# Altium integrated library Resistors.IntLib: 4954 symbols (part 16 of 32)
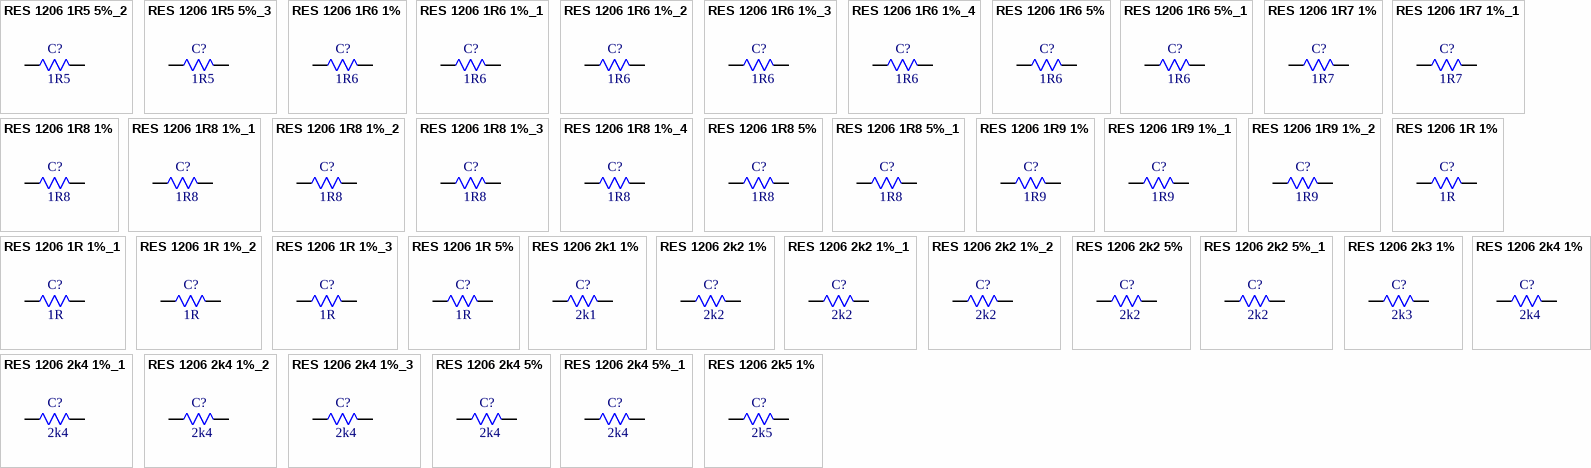
[diagram p138: symbols RES 1206 1R5 5%_2 to RES 1206 2k5 1%]

## RES 1206 2k5 1%
designator C?, comment 2k5
2.55kR 1% 250mW 1206 Thick Film Resistor; Manufacturer: FOJAN; Manufacturer Part Number: FRC1206F2551TS; Voltage Rating: 200V; Supplier: LCSC; Supplier Part Number: C2930415; Resistance: 2k5; Tolerance: 1%; Power: 250mW
footprint RES SMD 1206
pins: 1, 2

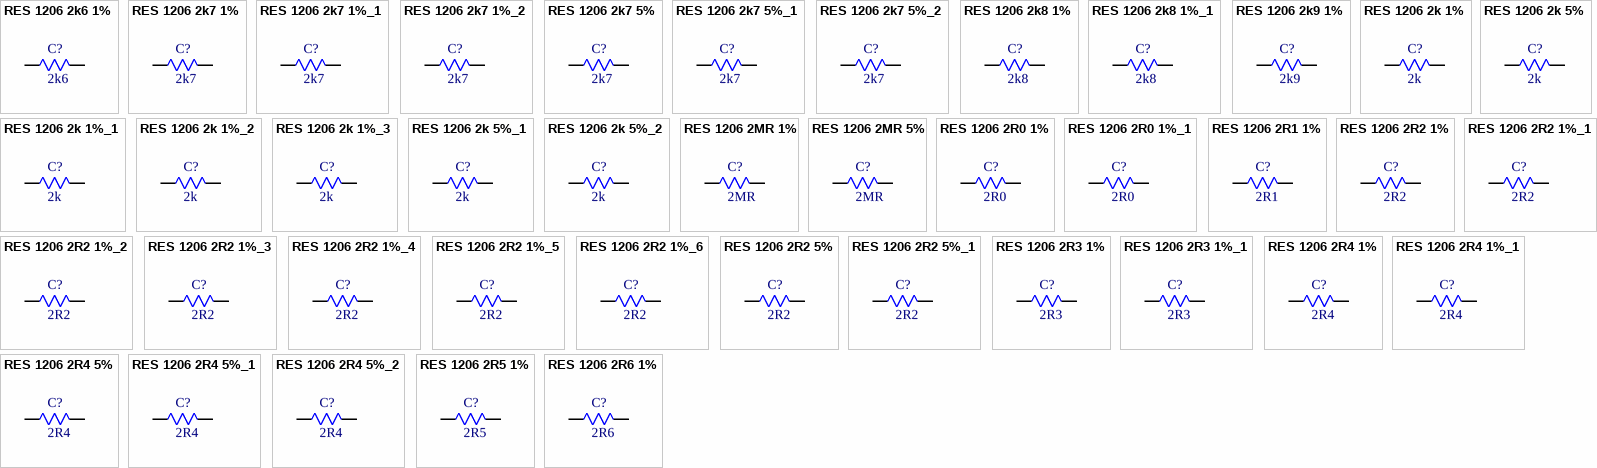
[diagram p60: symbols RES 1206 2k6 1% to RES 1206 2R6 1%]

## RES 1206 2k6 1%
designator C?, comment 2k6
250mW 2.61kR 200V Thick Film Resistor 100ppm/â„ƒ 1% 1206 Chip Resistor - Surface Mount RoHS; Manufacturer: FOJAN; Manufacturer Part Number: FRC1206F2611TS; Supplier: LCSC; Supplier Part Number: C48533626; Resistance: 2k6; Tolerance: 1%; Voltage Rating: 200V; Power: 250mW
footprint RES SMD 1206
pins: 1, 2

## RES 1206 2k7 1%
designator C?, comment 2k7
2.7kR 1% 250mW 1206 Thick Film Resistor; Manufacturer: FOJAN; Manufacturer Part Number: FRC1206F2701TS; Voltage Rating: 200V; Supplier: LCSC; Supplier Part Number: C2930416; Resistance: 2k7; Tolerance: 1%; Power: 250mW
footprint RES SMD 1206
pins: 1, 2

## RES 1206 2k7 1%_1
designator C?, comment 2k7
250mW 2.7kR 200V Thick Film Resistor 100ppm/â„ƒ 1% 1206 Chip Resistor - Surface Mount RoHS; Manufacturer: FOJAN; Manufacturer Part Number: FRQ1206F2701TS; Supplier: LCSC; Supplier Part Number: C48533718; Resistance: 2k7; Tolerance: 1%; Voltage Rating: 200V; Power: 250mW
footprint RES SMD 1206
pins: 1, 2

## RES 1206 2k7 1%_2
designator C?, comment 2k7
2.74kR 1% 250mW 1206 Thick Film Resistor; Manufacturer: FOJAN; Manufacturer Part Number: FRC1206F2741TS; Voltage Rating: 200V; Supplier: LCSC; Supplier Part Number: C3000744; Resistance: 2k7; Tolerance: 1%; Power: 250mW
footprint RES SMD 1206
pins: 1, 2

## RES 1206 2k7 5%
designator C?, comment 2k7
2.7kR 5% 250mW 1206 Thick Film Resistor; Manufacturer: FOJAN; Manufacturer Part Number: FRC1206J272 TS; Voltage Rating: 200V; Supplier: LCSC; Supplier Part Number: C2907449; Resistance: 2k7; Tolerance: 5%; Power: 250mW
footprint RES SMD 1206
pins: 1, 2

## RES 1206 2k7 5%_1
designator C?, comment 2k7
2.7kR 5% 250mW 1206 Thick Film Resistor; Manufacturer: FOJAN; Manufacturer Part Number: FRD1206J272 TS; Voltage Rating: 200V; Supplier: LCSC; Supplier Part Number: C2934221; Resistance: 2k7; Tolerance: 5%; Power: 250mW
footprint RES SMD 1206
pins: 1, 2

## RES 1206 2k7 5%_2
designator C?, comment 2k7
250mW 2.7kR 200V Thick Film Resistor 100ppm/â„ƒ 5% 1206 Chip Resistor - Surface Mount RoHS; Manufacturer: FOJAN; Manufacturer Part Number: FRQ1206J272 TS; Supplier: LCSC; Supplier Part Number: C49196754; Resistance: 2k7; Tolerance: 5%; Voltage Rating: 200V; Power: 250mW
footprint RES SMD 1206
pins: 1, 2

## RES 1206 2k8 1%
designator C?, comment 2k8
2.87kR 1% 250mW 1206 Thick Film Resistor; Manufacturer: FOJAN; Manufacturer Part Number: FRC1206F2871TS; Voltage Rating: 200V; Supplier: LCSC; Supplier Part Number: C3000570; Resistance: 2k8; Tolerance: 1%; Power: 250mW
footprint RES SMD 1206
pins: 1, 2

## RES 1206 2k8 1%_1
designator C?, comment 2k8
2.8kR 1% 250mW 1206 Thick Film Resistor; Manufacturer: FOJAN; Manufacturer Part Number: FRC1206F2801TS; Voltage Rating: 200V; Supplier: LCSC; Supplier Part Number: C5126233; Resistance: 2k8; Tolerance: 1%; Power: 250mW
footprint RES SMD 1206
pins: 1, 2

## RES 1206 2k9 1%
designator C?, comment 2k9
2.94kR 1% 250mW 1206 Thick Film Resistor; Manufacturer: FOJAN; Manufacturer Part Number: FRC1206F2941TS; Voltage Rating: 200V; Supplier: LCSC; Supplier Part Number: C2933659; Resistance: 2k9; Tolerance: 1%; Power: 250mW
footprint RES SMD 1206
pins: 1, 2

## RES 1206 2k 1%
designator C?, comment 2k
2kR 1% 250mW 1206 Thick Film Resistor; Manufacturer: FOJAN; Manufacturer Part Number: FRC1206F2001TS; Voltage Rating: 200V; Supplier: LCSC; Supplier Part Number: C2907379; Resistance: 2k; Tolerance: 1%; Power: 250mW
footprint RES SMD 1206
pins: 1, 2

## RES 1206 2k 1%_1
designator C?, comment 2k
2kR 250mW 200V Thick Film Resistor 1% 1206 Chip Resistor - Surface Mount RoHS; Manufacturer: FOJAN; Manufacturer Part Number: FRS1206F2001TS; Supplier: LCSC; Supplier Part Number: C52033566; Resistance: 2k; Tolerance: 1%; Voltage Rating: 200V; Power: 250mW
footprint RES SMD 1206
pins: 1, 2

## RES 1206 2k 1%_2
designator C?, comment 2k
2kR 250mW 200V Thick Film Resistor 100ppm/â„ƒ 1% 1206 Chip Resistor - Surface Mount RoHS; Manufacturer: FOJAN; Manufacturer Part Number: FRR1206F2001TS; Supplier: LCSC; Supplier Part Number: C49196837; Resistance: 2k; Tolerance: 1%; Voltage Rating: 200V; Power: 250mW
footprint RES SMD 1206
pins: 1, 2

## RES 1206 2k 1%_3
designator C?, comment 2k
2kR 250mW 200V Thick Film Resistor 1% 100ppm/â„ƒ 1206 Chip Resistor - Surface Mount RoHS; Manufacturer: FOJAN; Manufacturer Part Number: FRQ1206F2001TS; Supplier: LCSC; Supplier Part Number: C7468620; Resistance: 2k; Tolerance: 1%; Voltage Rating: 200V; Power: 250mW
footprint RES SMD 1206
pins: 1, 2

## RES 1206 2k 5%
designator C?, comment 2k
2kR 5% 250mW 1206 Thick Film Resistor; Manufacturer: FOJAN; Manufacturer Part Number: FRC1206J202 TS; Voltage Rating: 200V; Supplier: LCSC; Supplier Part Number: C2907466; Resistance: 2k; Tolerance: 5%; Power: 250mW
footprint RES SMD 1206
pins: 1, 2

## RES 1206 2k 5%_1
designator C?, comment 2k
2kR 250mW Thick Film Resistor 5% 100ppm/â„ƒ 1206 Chip Resistor - Surface Mount RoHS; Manufacturer: FOJAN; Manufacturer Part Number: FRQ1206J202 TS; Supplier: LCSC; Supplier Part Number: C7468453; Resistance: 2k; Tolerance: 5%; Power: 250mW
footprint RES SMD 1206
pins: 1, 2

## RES 1206 2k 5%_2
designator C?, comment 2k
2kR 500mW Thick Film Resistor 200ppm/â„ƒ 5% 1206 Chip Resistor - Surface Mount RoHS; Manufacturer: FOJAN; Manufacturer Part Number: FRP1206J202 TS; Supplier: LCSC; Supplier Part Number: C7468214; Resistance: 2k; Tolerance: 5%; Power: 500mW
footprint RES SMD 1206
pins: 1, 2

## RES 1206 2MR 1%
designator C?, comment 2MR
2MR 1% 250mW 1206 Thick Film Resistor; Manufacturer: FOJAN; Manufacturer Part Number: FRC1206F2004TS; Voltage Rating: 200V; Supplier: LCSC; Supplier Part Number: C2907380; Resistance: 2MR; Tolerance: 1%; Power: 250mW
footprint RES SMD 1206
pins: 1, 2

## RES 1206 2MR 5%
designator C?, comment 2MR
2MR 5% 250mW 1206 Thick Film Resistor; Manufacturer: FOJAN; Manufacturer Part Number: FRC1206J205 TS; Voltage Rating: 200V; Supplier: LCSC; Supplier Part Number: C2907467; Resistance: 2MR; Tolerance: 5%; Power: 250mW
footprint RES SMD 1206
pins: 1, 2

## RES 1206 2R0 1%
designator C?, comment 2R0
2.05R 1% 250mW 1206 Thick Film Resistor; Manufacturer: FOJAN; Manufacturer Part Number: FRC1206F2R05TS; Voltage Rating: 200V; Supplier: LCSC; Supplier Part Number: C5126165; Resistance: 2R0; Tolerance: 1%; Power: 250mW
footprint RES SMD 1206
pins: 1, 2

## RES 1206 2R0 1%_1
designator C?, comment 2R0
250mW 2.05MR 200V Thick Film Resistor 100ppm/â„ƒ 1% 1206 Chip Resistor - Surface Mount RoHS; Manufacturer: FOJAN; Manufacturer Part Number: FRC1206F2054TS; Supplier: LCSC; Supplier Part Number: C48533627; Resistance: 2R0; Tolerance: 1%; Voltage Rating: 200V; Power: 250mW
footprint RES SMD 1206
pins: 1, 2

## RES 1206 2R1 1%
designator C?, comment 2R1
2.15R 1% 250mW 1206 Thick Film Resistor; Manufacturer: FOJAN; Manufacturer Part Number: FRC1206F2R15TS; Voltage Rating: 200V; Supplier: LCSC; Supplier Part Number: C2933661; Resistance: 2R1; Tolerance: 1%; Power: 250mW
footprint RES SMD 1206
pins: 1, 2

## RES 1206 2R2 1%
designator C?, comment 2R2
2.2MR 1% 250mW 1206 Thick Film Resistor; Manufacturer: FOJAN; Manufacturer Part Number: FRC1206F2204TS; Voltage Rating: 200V; Supplier: LCSC; Supplier Part Number: C2933644; Resistance: 2R2; Tolerance: 1%; Power: 250mW
footprint RES SMD 1206
pins: 1, 2

## RES 1206 2R2 1%_1
designator C?, comment 2R2
2.2R 1% 250mW 1206 Thick Film Resistor; Manufacturer: FOJAN; Manufacturer Part Number: FRC1206F2R20TS; Voltage Rating: 200V; Supplier: LCSC; Supplier Part Number: C2907376; Resistance: 2R2; Tolerance: 1%; Power: 250mW
footprint RES SMD 1206
pins: 1, 2

## RES 1206 2R2 1%_2
designator C?, comment 2R2
2.26R 1% 250mW 1206 Thick Film Resistor; Manufacturer: FOJAN; Manufacturer Part Number: FRC1206F2R26TS; Voltage Rating: 200V; Supplier: LCSC; Supplier Part Number: C2933662; Resistance: 2R2; Tolerance: 1%; Power: 250mW
footprint RES SMD 1206
pins: 1, 2

## RES 1206 2R2 1%_3
designator C?, comment 2R2
250mW 2.2MR Thick Film Resistor 1% 100ppm/â„ƒ 1206 Chip Resistor - Surface Mount RoHS; Manufacturer: FOJAN; Manufacturer Part Number: FRV1206F2204TS; Supplier: LCSC; Supplier Part Number: C7468679; Resistance: 2R2; Tolerance: 1%; Power: 250mW
footprint RES SMD 1206
pins: 1, 2

## RES 1206 2R2 1%_4
designator C?, comment 2R2
250mW 2.2MR 200V Thick Film Resistor 100ppm/â„ƒ 1% 1206 Chip Resistor - Surface Mount RoHS; Manufacturer: FOJAN; Manufacturer Part Number: FRQ1206F2204TS; Supplier: LCSC; Supplier Part Number: C49196700; Resistance: 2R2; Tolerance: 1%; Voltage Rating: 200V; Power: 250mW
footprint RES SMD 1206
pins: 1, 2

## RES 1206 2R2 1%_5
designator C?, comment 2R2
2.21R 1% 250mW 1206 Thick Film Resistor; Manufacturer: FOJAN; Manufacturer Part Number: FRC1206F2R21TS; Voltage Rating: 200V; Supplier: LCSC; Supplier Part Number: C5126181; Resistance: 2R2; Tolerance: 1%; Power: 250mW
footprint RES SMD 1206
pins: 1, 2

## RES 1206 2R2 1%_6
designator C?, comment 2R2
2.26MR 1% 250mW 1206 Thick Film Resistor; Manufacturer: FOJAN; Manufacturer Part Number: FRC1206F2264TS; Voltage Rating: 200V; Supplier: LCSC; Supplier Part Number: C2974051; Resistance: 2R2; Tolerance: 1%; Power: 250mW
footprint RES SMD 1206
pins: 1, 2

## RES 1206 2R2 5%
designator C?, comment 2R2
2.2R 5% 250mW 1206 Thick Film Resistor; Manufacturer: FOJAN; Manufacturer Part Number: FRC1206J2R2 TS; Voltage Rating: 200V; Supplier: LCSC; Supplier Part Number: C2907445; Resistance: 2R2; Tolerance: 5%; Power: 250mW
footprint RES SMD 1206
pins: 1, 2

## RES 1206 2R2 5%_1
designator C?, comment 2R2
2.2MR 5% 250mW 1206 Thick Film Resistor; Manufacturer: FOJAN; Manufacturer Part Number: FRC1206J225 TS; Voltage Rating: 200V; Supplier: LCSC; Supplier Part Number: C2907444; Resistance: 2R2; Tolerance: 5%; Power: 250mW
footprint RES SMD 1206
pins: 1, 2

## RES 1206 2R3 1%
designator C?, comment 2R3
2.32R 1% 250mW 1206 Thick Film Resistor; Manufacturer: FOJAN; Manufacturer Part Number: FRC1206F2R32TS; Voltage Rating: 200V; Supplier: LCSC; Supplier Part Number: C2933663; Resistance: 2R3; Tolerance: 1%; Power: 250mW
footprint RES SMD 1206
pins: 1, 2

## RES 1206 2R3 1%_1
designator C?, comment 2R3
2.37R 1% 250mW 1206 Thick Film Resistor; Manufacturer: FOJAN; Manufacturer Part Number: FRC1206F2R37TS; Voltage Rating: 200V; Supplier: LCSC; Supplier Part Number: C2933664; Resistance: 2R3; Tolerance: 1%; Power: 250mW
footprint RES SMD 1206
pins: 1, 2

## RES 1206 2R4 1%
designator C?, comment 2R4
2.43R 1% 250mW 1206 Thick Film Resistor; Manufacturer: FOJAN; Manufacturer Part Number: FRC1206F2R43TS; Voltage Rating: 200V; Supplier: LCSC; Supplier Part Number: C3000564; Resistance: 2R4; Tolerance: 1%; Power: 250mW
footprint RES SMD 1206
pins: 1, 2

## RES 1206 2R4 1%_1
designator C?, comment 2R4
2.49MR 1% 250mW 1206 Thick Film Resistor; Manufacturer: FOJAN; Manufacturer Part Number: FRC1206F2494TS; Voltage Rating: 200V; Supplier: LCSC; Supplier Part Number: C2999533; Resistance: 2R4; Tolerance: 1%; Power: 250mW
footprint RES SMD 1206
pins: 1, 2

## RES 1206 2R4 5%
designator C?, comment 2R4
2.4R 500mW 200V Thick Film Resistor 5% 1206 Chip Resistor - Surface Mount RoHS; Manufacturer: FOJAN; Manufacturer Part Number: FPS1206J2R4 TS; Supplier: LCSC; Supplier Part Number: C51048271; Resistance: 2R4; Tolerance: 5%; Voltage Rating: 200V; Power: 500mW
footprint RES SMD 1206
pins: 1, 2

## RES 1206 2R4 5%_1
designator C?, comment 2R4
2.4MR 5% 250mW 1206 Thick Film Resistor; Manufacturer: FOJAN; Manufacturer Part Number: FRC1206J245 TS; Voltage Rating: 200V; Supplier: LCSC; Supplier Part Number: C2907447; Resistance: 2R4; Tolerance: 5%; Power: 250mW
footprint RES SMD 1206
pins: 1, 2

## RES 1206 2R4 5%_2
designator C?, comment 2R4
2.4R 5% 250mW 1206 Thick Film Resistor; Manufacturer: FOJAN; Manufacturer Part Number: FRC1206J2R4 TS; Voltage Rating: 200V; Supplier: LCSC; Supplier Part Number: C2907448; Resistance: 2R4; Tolerance: 5%; Power: 250mW
footprint RES SMD 1206
pins: 1, 2

## RES 1206 2R5 1%
designator C?, comment 2R5
2.55R 1% 250mW 1206 Thick Film Resistor; Manufacturer: FOJAN; Manufacturer Part Number: FRC1206F2R55TS; Voltage Rating: 200V; Supplier: LCSC; Supplier Part Number: C2933667; Resistance: 2R5; Tolerance: 1%; Power: 250mW
footprint RES SMD 1206
pins: 1, 2

## RES 1206 2R6 1%
designator C?, comment 2R6
2.61R 1% 250mW 1206 Thick Film Resistor; Manufacturer: FOJAN; Manufacturer Part Number: FRC1206F2R61TS; Voltage Rating: 200V; Supplier: LCSC; Supplier Part Number: C2930395; Resistance: 2R6; Tolerance: 1%; Power: 250mW
footprint RES SMD 1206
pins: 1, 2

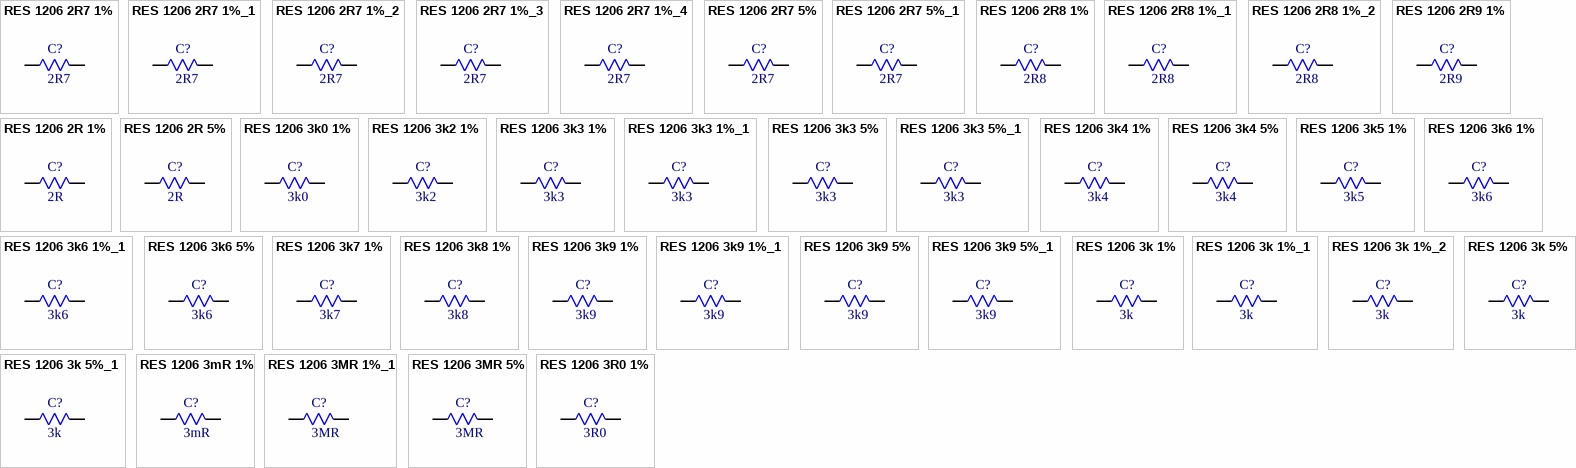
[diagram p61: symbols RES 1206 2R7 1% to RES 1206 3R0 1%]

## RES 1206 2R7 1%
designator C?, comment 2R7
2.7R 1% 250mW 1206 Thick Film Resistor; Manufacturer: FOJAN; Manufacturer Part Number: FRC1206F2R70TS; Voltage Rating: 200V; Supplier: LCSC; Supplier Part Number: C2930396; Resistance: 2R7; Tolerance: 1%; Power: 250mW
footprint RES SMD 1206
pins: 1, 2

## RES 1206 2R7 1%_1
designator C?, comment 2R7
2.7MR 1% 250mW 1206 Thick Film Resistor; Manufacturer: FOJAN; Manufacturer Part Number: FRC1206F2704TS; Voltage Rating: 200V; Supplier: LCSC; Supplier Part Number: C3013248; Resistance: 2R7; Tolerance: 1%; Power: 250mW
footprint RES SMD 1206
pins: 1, 2

## RES 1206 2R7 1%_2
designator C?, comment 2R7
250mW 2.7R 200V Thick Film Resistor 1% 200ppm/â„ƒ 1206 Chip Resistor - Surface Mount RoHS; Manufacturer: FOJAN; Manufacturer Part Number: FRQ1206F2R70TS; Supplier: LCSC; Supplier Part Number: C49196701; Resistance: 2R7; Tolerance: 1%; Voltage Rating: 200V; Power: 250mW
footprint RES SMD 1206
pins: 1, 2

## RES 1206 2R7 1%_3
designator C?, comment 2R7
2.74R 1% 250mW 1206 Thick Film Resistor; Manufacturer: FOJAN; Manufacturer Part Number: FRC1206F2R74TS; Voltage Rating: 200V; Supplier: LCSC; Supplier Part Number: C3013251; Resistance: 2R7; Tolerance: 1%; Power: 250mW
footprint RES SMD 1206
pins: 1, 2

## RES 1206 2R7 1%_4
designator C?, comment 2R7
250mW 2.74MR 200V Thick Film Resistor 100ppm/â„ƒ 1% 1206 Chip Resistor - Surface Mount RoHS; Manufacturer: FOJAN; Manufacturer Part Number: FRC1206F2744TS; Supplier: LCSC; Supplier Part Number: C49010127; Resistance: 2R7; Tolerance: 1%; Voltage Rating: 200V; Power: 250mW
footprint RES SMD 1206
pins: 1, 2

## RES 1206 2R7 5%
designator C?, comment 2R7
2.7R 5% 250mW 1206 Thick Film Resistor; Manufacturer: FOJAN; Manufacturer Part Number: FRC1206J2R7TS; Voltage Rating: 200V; Supplier: LCSC; Supplier Part Number: C2930354; Resistance: 2R7; Tolerance: 5%; Power: 250mW
footprint RES SMD 1206
pins: 1, 2

## RES 1206 2R7 5%_1
designator C?, comment 2R7
500mW 2.7R Thick Film Resistor 100ppm/â„ƒ 5% 1206 Chip Resistor - Surface Mount RoHS; Manufacturer: FOJAN; Manufacturer Part Number: FRP1206J2R7 TS; Supplier: LCSC; Supplier Part Number: C22375125; Resistance: 2R7; Tolerance: 5%; Power: 500mW
footprint RES SMD 1206
pins: 1, 2

## RES 1206 2R8 1%
designator C?, comment 2R8
2.8R 1% 250mW 1206 Thick Film Resistor; Manufacturer: FOJAN; Manufacturer Part Number: FRC1206F2R80TS; Voltage Rating: 200V; Supplier: LCSC; Supplier Part Number: C2960822; Resistance: 2R8; Tolerance: 1%; Power: 250mW
footprint RES SMD 1206
pins: 1, 2

## RES 1206 2R8 1%_1
designator C?, comment 2R8
2.87R 1% 250mW 1206 Thick Film Resistor; Manufacturer: FOJAN; Manufacturer Part Number: FRC1206F2R87TS; Voltage Rating: 200V; Supplier: LCSC; Supplier Part Number: C2933668; Resistance: 2R8; Tolerance: 1%; Power: 250mW
footprint RES SMD 1206
pins: 1, 2

## RES 1206 2R8 1%_2
designator C?, comment 2R8
2.8MR 250mW 200V Thick Film Resistor 1% 1206 Chip Resistor - Surface Mount RoHS; Manufacturer: FOJAN; Manufacturer Part Number: FRC1206F2804TS; Supplier: LCSC; Supplier Part Number: C51048298; Resistance: 2R8; Tolerance: 1%; Voltage Rating: 200V; Power: 250mW
footprint RES SMD 1206
pins: 1, 2

## RES 1206 2R9 1%
designator C?, comment 2R9
2.94R 1% 250mW 1206 Thick Film Resistor; Manufacturer: FOJAN; Manufacturer Part Number: FRC1206F2R94TS; Voltage Rating: 200V; Supplier: LCSC; Supplier Part Number: C2933669; Resistance: 2R9; Tolerance: 1%; Power: 250mW
footprint RES SMD 1206
pins: 1, 2

## RES 1206 2R 1%
designator C?, comment 2R
2R 1% 250mW 1206 Thick Film Resistor; Manufacturer: FOJAN; Manufacturer Part Number: FRC1206F2R00TS; Voltage Rating: 200V; Supplier: LCSC; Supplier Part Number: C2907381; Resistance: 2R; Tolerance: 1%; Power: 250mW
footprint RES SMD 1206
pins: 1, 2

## RES 1206 2R 5%
designator C?, comment 2R
2R 5% 250mW 1206 Thick Film Resistor; Manufacturer: FOJAN; Manufacturer Part Number: FRC1206J2R0 TS; Voltage Rating: 200V; Supplier: LCSC; Supplier Part Number: C2907468; Resistance: 2R; Tolerance: 5%; Power: 250mW
footprint RES SMD 1206
pins: 1, 2

## RES 1206 3k0 1%
designator C?, comment 3k0
3.01kR 1% 250mW 1206 Thick Film Resistor; Manufacturer: FOJAN; Manufacturer Part Number: FRC1206F3011TS; Voltage Rating: 200V; Supplier: LCSC; Supplier Part Number: C3000618; Resistance: 3k0; Tolerance: 1%; Power: 250mW
footprint RES SMD 1206
pins: 1, 2

## RES 1206 3k2 1%
designator C?, comment 3k2
3.24kR 1% 250mW 1206 Thick Film Resistor; Manufacturer: FOJAN; Manufacturer Part Number: FRC1206F3241TS; Voltage Rating: 200V; Supplier: LCSC; Supplier Part Number: C5153989; Resistance: 3k2; Tolerance: 1%; Power: 250mW
footprint RES SMD 1206
pins: 1, 2

## RES 1206 3k3 1%
designator C?, comment 3k3
3.3kR 1% 250mW 1206 Thick Film Resistor; Manufacturer: FOJAN; Manufacturer Part Number: FRC1206F3301TS; Voltage Rating: 200V; Supplier: LCSC; Supplier Part Number: C2907382; Resistance: 3k3; Tolerance: 1%; Power: 250mW
footprint RES SMD 1206
pins: 1, 2

## RES 1206 3k3 1%_1
designator C?, comment 3k3
3.32kR 250mW 200V Thick Film Resistor 1% 100ppm/â„ƒ 1206 Chip Resistor - Surface Mount RoHS; Manufacturer: FOJAN; Manufacturer Part Number: FRC1206F3321TS; Supplier: LCSC; Supplier Part Number: C7467429; Resistance: 3k3; Tolerance: 1%; Voltage Rating: 200V; Power: 250mW
footprint RES SMD 1206
pins: 1, 2

## RES 1206 3k3 5%
designator C?, comment 3k3
3.3kR 5% 250mW 1206 Thick Film Resistor; Manufacturer: FOJAN; Manufacturer Part Number: FRC1206J332 TS; Voltage Rating: 200V; Supplier: LCSC; Supplier Part Number: C2907469; Resistance: 3k3; Tolerance: 5%; Power: 250mW
footprint RES SMD 1206
pins: 1, 2

## RES 1206 3k3 5%_1
designator C?, comment 3k3
3.3kR 5% 250mW 1206 Thick Film Resistor AEC-Q200; Manufacturer: FOJAN; Manufacturer Part Number: FRQ1206J332 TS; Voltage Rating: 200V; Supplier: LCSC; Supplier Part Number: C5713469; Resistance: 3k3; Tolerance: 5%; Power: 250mW
footprint RES SMD 1206
pins: 1, 2

## RES 1206 3k4 1%
designator C?, comment 3k4
3.48kR 1% 250mW 1206 Thick Film Resistor; Manufacturer: FOJAN; Manufacturer Part Number: FRC1206F3481TS; Voltage Rating: 200V; Supplier: LCSC; Supplier Part Number: C2933680; Resistance: 3k4; Tolerance: 1%; Power: 250mW
footprint RES SMD 1206
pins: 1, 2

## RES 1206 3k4 5%
designator C?, comment 3k4
3.4kR 5% 250mW 1206 Thick Film Resistor; Manufacturer: FOJAN; Manufacturer Part Number: FRC1206J342TS; Voltage Rating: 200V; Supplier: LCSC; Supplier Part Number: C2930364; Resistance: 3k4; Tolerance: 5%; Power: 250mW
footprint RES SMD 1206
pins: 1, 2

## RES 1206 3k5 1%
designator C?, comment 3k5
3.57kR 1% 250mW 1206 Thick Film Resistor; Manufacturer: FOJAN; Manufacturer Part Number: FRC1206F3571TS; Voltage Rating: 200V; Supplier: LCSC; Supplier Part Number: C2933682; Resistance: 3k5; Tolerance: 1%; Power: 250mW
footprint RES SMD 1206
pins: 1, 2

## RES 1206 3k6 1%
designator C?, comment 3k6
3.6kR 1% 250mW 1206 Thick Film Resistor; Manufacturer: FOJAN; Manufacturer Part Number: FRC1206F3601TS; Voltage Rating: 200V; Supplier: LCSC; Supplier Part Number: C2933684; Resistance: 3k6; Tolerance: 1%; Power: 250mW
footprint RES SMD 1206
pins: 1, 2

## RES 1206 3k6 1%_1
designator C?, comment 3k6
250mW 3.6kR 200V Thick Film Resistor 1% 100ppm/â„ƒ 1206 Chip Resistor - Surface Mount RoHS; Manufacturer: FOJAN; Manufacturer Part Number: FRQ1206F3601TS; Supplier: LCSC; Supplier Part Number: C7468677; Resistance: 3k6; Tolerance: 1%; Voltage Rating: 200V; Power: 250mW
footprint RES SMD 1206
pins: 1, 2

## RES 1206 3k6 5%
designator C?, comment 3k6
3.6kR 5% 250mW 1206 Thick Film Resistor AEC-Q200; Manufacturer: FOJAN; Manufacturer Part Number: FRQ1206J362 TS; Voltage Rating: 200V; Supplier: LCSC; Supplier Part Number: C5713470; Resistance: 3k6; Tolerance: 5%; Power: 250mW
footprint RES SMD 1206
pins: 1, 2

## RES 1206 3k7 1%
designator C?, comment 3k7
3.74kR 1% 250mW 1206 Thick Film Resistor; Manufacturer: FOJAN; Manufacturer Part Number: FRC1206F3741TS; Voltage Rating: 200V; Supplier: LCSC; Supplier Part Number: C2933688; Resistance: 3k7; Tolerance: 1%; Power: 250mW
footprint RES SMD 1206
pins: 1, 2

## RES 1206 3k8 1%
designator C?, comment 3k8
3.83kR 250mW 200V Thick Film Resistor 100ppm/â„ƒ 1% 1206 Chip Resistor - Surface Mount RoHS; Manufacturer: FOJAN; Manufacturer Part Number: FRC1206F3831TS; Supplier: LCSC; Supplier Part Number: C22375132; Resistance: 3k8; Tolerance: 1%; Voltage Rating: 200V; Power: 250mW
footprint RES SMD 1206
pins: 1, 2

## RES 1206 3k9 1%
designator C?, comment 3k9
3.92kR 1% 250mW 1206 Thick Film Resistor; Manufacturer: FOJAN; Manufacturer Part Number: FRC1206F3921TS; Voltage Rating: 200V; Supplier: LCSC; Supplier Part Number: C5126081; Resistance: 3k9; Tolerance: 1%; Power: 250mW
footprint RES SMD 1206
pins: 1, 2

## RES 1206 3k9 1%_1
designator C?, comment 3k9
3.9kR 1% 250mW 1206 Thick Film Resistor; Manufacturer: FOJAN; Manufacturer Part Number: FRC1206F3901TS; Voltage Rating: 200V; Supplier: LCSC; Supplier Part Number: C2933690; Resistance: 3k9; Tolerance: 1%; Power: 250mW
footprint RES SMD 1206
pins: 1, 2

## RES 1206 3k9 5%
designator C?, comment 3k9
3.9kR 5% 250mW 1206 Thick Film Resistor; Manufacturer: FOJAN; Manufacturer Part Number: FRC1206J392 TS; Voltage Rating: 200V; Supplier: LCSC; Supplier Part Number: C2907474; Resistance: 3k9; Tolerance: 5%; Power: 250mW
footprint RES SMD 1206
pins: 1, 2

## RES 1206 3k9 5%_1
designator C?, comment 3k9
250mW 3.9kR 200V Thick Film Resistor 5% 100ppm/â„ƒ 1206 Chip Resistor - Surface Mount RoHS; Manufacturer: FOJAN; Manufacturer Part Number: FRQ1206J392 TS; Supplier: LCSC; Supplier Part Number: C7468531; Resistance: 3k9; Tolerance: 5%; Voltage Rating: 200V; Power: 250mW
footprint RES SMD 1206
pins: 1, 2

## RES 1206 3k 1%
designator C?, comment 3k
250mW 3kR 200V Thick Film Resistor 1% 100ppm/â„ƒ 1206 Chip Resistor - Surface Mount RoHS; Manufacturer: FOJAN; Manufacturer Part Number: FRQ1206F3001TS; Supplier: LCSC; Supplier Part Number: C7468658; Resistance: 3k; Tolerance: 1%; Voltage Rating: 200V; Power: 250mW
footprint RES SMD 1206
pins: 1, 2

## RES 1206 3k 1%_1
designator C?, comment 3k
3kR 1% 250mW 1206 Thick Film Resistor; Manufacturer: FOJAN; Manufacturer Part Number: FRC1206F3001TS; Voltage Rating: 200V; Supplier: LCSC; Supplier Part Number: C2930427; Resistance: 3k; Tolerance: 1%; Power: 250mW
footprint RES SMD 1206
pins: 1, 2

## RES 1206 3k 1%_2
designator C?, comment 3k
500mW 3kR Thick Film Resistor 200ppm/â„ƒ 1% 1206 Chip Resistor - Surface Mount RoHS; Manufacturer: FOJAN; Manufacturer Part Number: FRP1206F3001TS; Supplier: LCSC; Supplier Part Number: C7468312; Resistance: 3k; Tolerance: 1%; Power: 500mW
footprint RES SMD 1206
pins: 1, 2

## RES 1206 3k 5%
designator C?, comment 3k
3kR 5% 250mW 1206 Thick Film Resistor; Manufacturer: FOJAN; Manufacturer Part Number: FRC1206J302 TS; Voltage Rating: 200V; Supplier: LCSC; Supplier Part Number: C2907493; Resistance: 3k; Tolerance: 5%; Power: 250mW
footprint RES SMD 1206
pins: 1, 2

## RES 1206 3k 5%_1
designator C?, comment 3k
3kR 5% 250mW 1206 Thick Film Resistor AEC-Q200; Manufacturer: FOJAN; Manufacturer Part Number: FRQ1206J302 TS; Voltage Rating: 200V; Supplier: LCSC; Supplier Part Number: C5713468; Resistance: 3k; Tolerance: 5%; Power: 250mW
footprint RES SMD 1206
pins: 1, 2

## RES 1206 3mR 1%
designator C?, comment 3mR
1W 3mR 50ppm/â„ƒ 1% 1206 Chip Resistor - Surface Mount RoHS; Manufacturer: FOJAN; Manufacturer Part Number: FRM121WFR003TM; Supplier: LCSC; Supplier Part Number: C48533617; Resistance: 3mR; Tolerance: 1%; Power: 1W
footprint RES SMD 1206
pins: 1, 2

## RES 1206 3MR 1%_1
designator C?, comment 3MR
3MR 1% 250mW 1206 Thick Film Resistor; Manufacturer: FOJAN; Manufacturer Part Number: FRC1206F3004TS; Voltage Rating: 200V; Supplier: LCSC; Supplier Part Number: C2930337; Resistance: 3MR; Tolerance: 1%; Power: 250mW
footprint RES SMD 1206
pins: 1, 2

## RES 1206 3MR 5%
designator C?, comment 3MR
3MR 5% 250mW 1206 Thick Film Resistor; Manufacturer: FOJAN; Manufacturer Part Number: FRC1206J305 TS; Voltage Rating: 200V; Supplier: LCSC; Supplier Part Number: C2907494; Resistance: 3MR; Tolerance: 5%; Power: 250mW
footprint RES SMD 1206
pins: 1, 2

## RES 1206 3R0 1%
designator C?, comment 3R0
250mW 3.01MR 200V Thick Film Resistor 1% 1206 Chip Resistor - Surface Mount RoHS; Manufacturer: FOJAN; Manufacturer Part Number: FRC1206F3014TS; Supplier: LCSC; Supplier Part Number: C52033534; Resistance: 3R0; Tolerance: 1%; Voltage Rating: 200V; Power: 250mW
footprint RES SMD 1206
pins: 1, 2

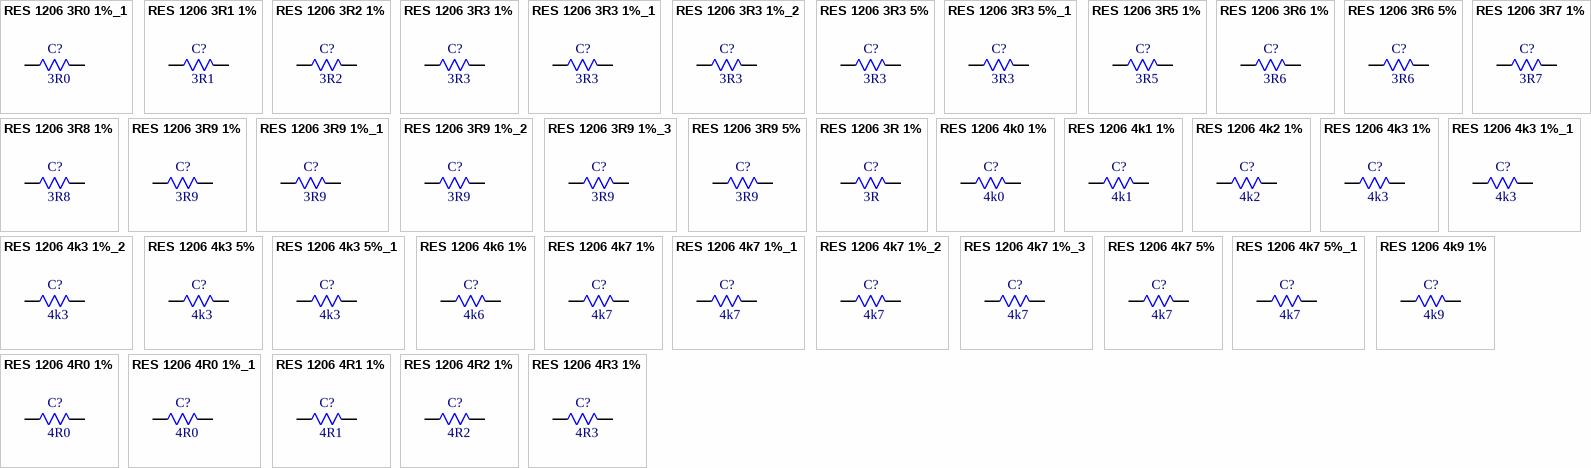
[diagram p62: symbols RES 1206 3R0 1%_1 to RES 1206 4R3 1%]

## RES 1206 3R0 1%_1
designator C?, comment 3R0
3.09R 1% 250mW 1206 Thick Film Resistor; Manufacturer: FOJAN; Manufacturer Part Number: FRC1206F3R09TS; Voltage Rating: 200V; Supplier: LCSC; Supplier Part Number: C2933695; Resistance: 3R0; Tolerance: 1%; Power: 250mW
footprint RES SMD 1206
pins: 1, 2

## RES 1206 3R1 1%
designator C?, comment 3R1
3.16R 1% 250mW 1206 Thick Film Resistor; Manufacturer: FOJAN; Manufacturer Part Number: FRC1206F3R16TS; Voltage Rating: 200V; Supplier: LCSC; Supplier Part Number: C2999555; Resistance: 3R1; Tolerance: 1%; Power: 250mW
footprint RES SMD 1206
pins: 1, 2

## RES 1206 3R2 1%
designator C?, comment 3R2
3.24MR 1% 250mW 1206 Thick Film Resistor; Manufacturer: FOJAN; Manufacturer Part Number: FRC1206F3244TS; Voltage Rating: 200V; Supplier: LCSC; Supplier Part Number: C42372177; Resistance: 3R2; Tolerance: 1%; Power: 250mW
footprint RES SMD 1206
pins: 1, 2

## RES 1206 3R3 1%
designator C?, comment 3R3
3.3R 1% 250mW 1206 Thick Film Resistor; Manufacturer: FOJAN; Manufacturer Part Number: FRC1206F3R30TS; Voltage Rating: 200V; Supplier: LCSC; Supplier Part Number: C2930397; Resistance: 3R3; Tolerance: 1%; Power: 250mW
footprint RES SMD 1206
pins: 1, 2

## RES 1206 3R3 1%_1
designator C?, comment 3R3
3.3MR 1% 250mW 1206 Thick Film Resistor; Manufacturer: FOJAN; Manufacturer Part Number: FRC1206F3304TS; Voltage Rating: 200V; Supplier: LCSC; Supplier Part Number: C2933678; Resistance: 3R3; Tolerance: 1%; Power: 250mW
footprint RES SMD 1206
pins: 1, 2

## RES 1206 3R3 1%_2
designator C?, comment 3R3
3.32MR 1% 250mW 1206 Thick Film Resistor; Manufacturer: FOJAN; Manufacturer Part Number: FRC1206F3324TS; Voltage Rating: 200V; Supplier: LCSC; Supplier Part Number: C3000529; Resistance: 3R3; Tolerance: 1%; Power: 250mW
footprint RES SMD 1206
pins: 1, 2

## RES 1206 3R3 5%
designator C?, comment 3R3
3.3MR 5% 250mW 1206 Thick Film Resistor; Manufacturer: FOJAN; Manufacturer Part Number: FRC1206J335 TS; Voltage Rating: 200V; Supplier: LCSC; Supplier Part Number: C2907470; Resistance: 3R3; Tolerance: 5%; Power: 250mW
footprint RES SMD 1206
pins: 1, 2

## RES 1206 3R3 5%_1
designator C?, comment 3R3
3.3R 5% 250mW 1206 Thick Film Resistor; Manufacturer: FOJAN; Manufacturer Part Number: FRC1206J3R3 TS; Voltage Rating: 200V; Supplier: LCSC; Supplier Part Number: C2907471; Resistance: 3R3; Tolerance: 5%; Power: 250mW
footprint RES SMD 1206
pins: 1, 2

## RES 1206 3R5 1%
designator C?, comment 3R5
3.57R 1% 250mW 1206 Thick Film Resistor; Manufacturer: FOJAN; Manufacturer Part Number: FRC1206F3R57TS; Voltage Rating: 200V; Supplier: LCSC; Supplier Part Number: C3013255; Resistance: 3R5; Tolerance: 1%; Power: 250mW
footprint RES SMD 1206
pins: 1, 2

## RES 1206 3R6 1%
designator C?, comment 3R6
3.65R 1% 250mW 1206 Thick Film Resistor; Manufacturer: FOJAN; Manufacturer Part Number: FRC1206F3R65TS; Voltage Rating: 200V; Supplier: LCSC; Supplier Part Number: C2933698; Resistance: 3R6; Tolerance: 1%; Power: 250mW
footprint RES SMD 1206
pins: 1, 2

## RES 1206 3R6 5%
designator C?, comment 3R6
3.6MR 5% 250mW 1206 Thick Film Resistor; Manufacturer: FOJAN; Manufacturer Part Number: FRC1206J365TS; Voltage Rating: 200V; Supplier: LCSC; Supplier Part Number: C2930365; Resistance: 3R6; Tolerance: 5%; Power: 250mW
footprint RES SMD 1206
pins: 1, 2

## RES 1206 3R7 1%
designator C?, comment 3R7
250mW 3.74R Thick Film Resistor 200ppm/â„ƒ 1% 1206 Chip Resistor - Surface Mount RoHS; Manufacturer: FOJAN; Manufacturer Part Number: FRC1206F3R74TS; Supplier: LCSC; Supplier Part Number: C7467439; Resistance: 3R7; Tolerance: 1%; Power: 250mW
footprint RES SMD 1206
pins: 1, 2

## RES 1206 3R8 1%
designator C?, comment 3R8
3.83R 1% 250mW 1206 Thick Film Resistor; Manufacturer: FOJAN; Manufacturer Part Number: FRC1206F3R83TS; Voltage Rating: 200V; Supplier: LCSC; Supplier Part Number: C3000574; Resistance: 3R8; Tolerance: 1%; Power: 250mW
footprint RES SMD 1206
pins: 1, 2

## RES 1206 3R9 1%
designator C?, comment 3R9
3.9R 1% 250mW 1206 Thick Film Resistor; Manufacturer: FOJAN; Manufacturer Part Number: FRC1206F3R90TS; Voltage Rating: 200V; Supplier: LCSC; Supplier Part Number: C2907383; Resistance: 3R9; Tolerance: 1%; Power: 250mW
footprint RES SMD 1206
pins: 1, 2

## RES 1206 3R9 1%_1
designator C?, comment 3R9
250mW 3.9R 200V Thick Film Resistor 200ppm/â„ƒ 1% 1206 Chip Resistor - Surface Mount RoHS; Manufacturer: FOJAN; Manufacturer Part Number: FRQ1206F3R90TS; Supplier: LCSC; Supplier Part Number: C49010136; Resistance: 3R9; Tolerance: 1%; Voltage Rating: 200V; Power: 250mW
footprint RES SMD 1206
pins: 1, 2

## RES 1206 3R9 1%_2
designator C?, comment 3R9
3.9MR 1% 250mW 1206 Thick Film Resistor; Manufacturer: FOJAN; Manufacturer Part Number: FRC1206F3904TS; Voltage Rating: 200V; Supplier: LCSC; Supplier Part Number: C2933693; Resistance: 3R9; Tolerance: 1%; Power: 250mW
footprint RES SMD 1206
pins: 1, 2

## RES 1206 3R9 1%_3
designator C?, comment 3R9
250mW 3.92MR 200V Thick Film Resistor 100ppm/â„ƒ 1% 1206 Chip Resistor - Surface Mount RoHS; Manufacturer: FOJAN; Manufacturer Part Number: FRC1206F3924TS; Supplier: LCSC; Supplier Part Number: C22375109; Resistance: 3R9; Tolerance: 1%; Voltage Rating: 200V; Power: 250mW
footprint RES SMD 1206
pins: 1, 2

## RES 1206 3R9 5%
designator C?, comment 3R9
3.9MR 5% 250mW 1206 Thick Film Resistor; Manufacturer: FOJAN; Manufacturer Part Number: FRC1206J395 TS; Voltage Rating: 200V; Supplier: LCSC; Supplier Part Number: C2907475; Resistance: 3R9; Tolerance: 5%; Power: 250mW
footprint RES SMD 1206
pins: 1, 2

## RES 1206 3R 1%
designator C?, comment 3R
3R 1% 250mW 1206 Thick Film Resistor; Manufacturer: FOJAN; Manufacturer Part Number: FRC1206F3R00TS; Voltage Rating: 200V; Supplier: LCSC; Supplier Part Number: C2907386; Resistance: 3R; Tolerance: 1%; Power: 250mW
footprint RES SMD 1206
pins: 1, 2

## RES 1206 4k0 1%
designator C?, comment 4k0
4.02kR 1% 250mW 1206 Thick Film Resistor; Manufacturer: FOJAN; Manufacturer Part Number: FRC1206F4021TS; Voltage Rating: 200V; Supplier: LCSC; Supplier Part Number: C2933700; Resistance: 4k0; Tolerance: 1%; Power: 250mW
footprint RES SMD 1206
pins: 1, 2

## RES 1206 4k1 1%
designator C?, comment 4k1
4.12kR 1% 250mW 1206 Thick Film Resistor; Manufacturer: FOJAN; Manufacturer Part Number: FRC1206F4121TS; Voltage Rating: 200V; Supplier: LCSC; Supplier Part Number: C2999479; Resistance: 4k1; Tolerance: 1%; Power: 250mW
footprint RES SMD 1206
pins: 1, 2

## RES 1206 4k2 1%
designator C?, comment 4k2
250mW 4.22kR 200V Thick Film Resistor 100ppm/â„ƒ 1% 1206 Chip Resistor - Surface Mount RoHS; Manufacturer: FOJAN; Manufacturer Part Number: FRC1206F4221TS; Supplier: LCSC; Supplier Part Number: C49196891; Resistance: 4k2; Tolerance: 1%; Voltage Rating: 200V; Power: 250mW
footprint RES SMD 1206
pins: 1, 2

## RES 1206 4k3 1%
designator C?, comment 4k3
4.3kR 1% 250mW 1206 Thick Film Resistor; Manufacturer: FOJAN; Manufacturer Part Number: FRC1206F4301TS; Voltage Rating: 200V; Supplier: LCSC; Supplier Part Number: C2933704; Resistance: 4k3; Tolerance: 1%; Power: 250mW
footprint RES SMD 1206
pins: 1, 2

## RES 1206 4k3 1%_1
designator C?, comment 4k3
250mW 4.3kR 200V Thick Film Resistor 1% 100ppm/â„ƒ 1206 Chip Resistor - Surface Mount RoHS; Manufacturer: FOJAN; Manufacturer Part Number: FRQ1206F4301TS; Supplier: LCSC; Supplier Part Number: C7468690; Resistance: 4k3; Tolerance: 1%; Voltage Rating: 200V; Power: 250mW
footprint RES SMD 1206
pins: 1, 2

## RES 1206 4k3 1%_2
designator C?, comment 4k3
4.32kR 1% 250mW 1206 Thick Film Resistor; Manufacturer: FOJAN; Manufacturer Part Number: FRC1206F4321TS; Voltage Rating: 200V; Supplier: LCSC; Supplier Part Number: C3000626; Resistance: 4k3; Tolerance: 1%; Power: 250mW
footprint RES SMD 1206
pins: 1, 2

## RES 1206 4k3 5%
designator C?, comment 4k3
4.3kR 5% 250mW 1206 Thick Film Resistor; Manufacturer: FOJAN; Manufacturer Part Number: FRC1206J432 TS; Voltage Rating: 200V; Supplier: LCSC; Supplier Part Number: C2907496; Resistance: 4k3; Tolerance: 5%; Power: 250mW
footprint RES SMD 1206
pins: 1, 2

## RES 1206 4k3 5%_1
designator C?, comment 4k3
4.3kR 5% 250mW 1206 Thick Film Resistor AEC-Q200; Manufacturer: FOJAN; Manufacturer Part Number: FRQ1206J432 TS; Voltage Rating: 200V; Supplier: LCSC; Supplier Part Number: C5713471; Resistance: 4k3; Tolerance: 5%; Power: 250mW
footprint RES SMD 1206
pins: 1, 2

## RES 1206 4k6 1%
designator C?, comment 4k6
4.64kR 1% 250mW 1206 Thick Film Resistor; Manufacturer: FOJAN; Manufacturer Part Number: FRC1206F4641TS; Voltage Rating: 200V; Supplier: LCSC; Supplier Part Number: C2999483; Resistance: 4k6; Tolerance: 1%; Power: 250mW
footprint RES SMD 1206
pins: 1, 2

## RES 1206 4k7 1%
designator C?, comment 4k7
4.7kR 1% 250mW 1206 Thick Film Resistor; Manufacturer: FOJAN; Manufacturer Part Number: FRC1206F4701TS; Voltage Rating: 200V; Supplier: LCSC; Supplier Part Number: C2907387; Resistance: 4k7; Tolerance: 1%; Power: 250mW
footprint RES SMD 1206
pins: 1, 2

## RES 1206 4k7 1%_1
designator C?, comment 4k7
250mW 4.75kR 200V Thick Film Resistor 1% 100ppm/â„ƒ 1206 Chip Resistor - Surface Mount RoHS; Manufacturer: FOJAN; Manufacturer Part Number: FRC1206F4751TS; Supplier: LCSC; Supplier Part Number: C7467457; Resistance: 4k7; Tolerance: 1%; Voltage Rating: 200V; Power: 250mW
footprint RES SMD 1206
pins: 1, 2

## RES 1206 4k7 1%_2
designator C?, comment 4k7
250mW 4.7kR 200V Thick Film Resistor 100ppm/â„ƒ 1% 1206 Chip Resistor - Surface Mount RoHS; Manufacturer: FOJAN; Manufacturer Part Number: FRR1206F4701TS; Supplier: LCSC; Supplier Part Number: C49196839; Resistance: 4k7; Tolerance: 1%; Voltage Rating: 200V; Power: 250mW
footprint RES SMD 1206
pins: 1, 2

## RES 1206 4k7 1%_3
designator C?, comment 4k7
250mW 4.7kR Thick Film Resistor 1% 100ppm/â„ƒ 1206 Chip Resistor - Surface Mount RoHS; Manufacturer: FOJAN; Manufacturer Part Number: FRQ1206F4701TS; Supplier: LCSC; Supplier Part Number: C7468617; Resistance: 4k7; Tolerance: 1%; Power: 250mW
footprint RES SMD 1206
pins: 1, 2

## RES 1206 4k7 5%
designator C?, comment 4k7
4.7kR 5% 250mW 1206 Thick Film Resistor; Manufacturer: FOJAN; Manufacturer Part Number: FRC1206J472 TS; Voltage Rating: 200V; Supplier: LCSC; Supplier Part Number: C2907499; Resistance: 4k7; Tolerance: 5%; Power: 250mW
footprint RES SMD 1206
pins: 1, 2

## RES 1206 4k7 5%_1
designator C?, comment 4k7
250mW 4.7kR Thick Film Resistor 5% 100ppm/â„ƒ 1206 Chip Resistor - Surface Mount RoHS; Manufacturer: FOJAN; Manufacturer Part Number: FRQ1206J472 TS; Supplier: LCSC; Supplier Part Number: C7468504; Resistance: 4k7; Tolerance: 5%; Power: 250mW
footprint RES SMD 1206
pins: 1, 2

## RES 1206 4k9 1%
designator C?, comment 4k9
4.99kR 1% 250mW 1206 Thick Film Resistor; Manufacturer: FOJAN; Manufacturer Part Number: FRC1206F4991TS; Voltage Rating: 200V; Supplier: LCSC; Supplier Part Number: C3013259; Resistance: 4k9; Tolerance: 1%; Power: 250mW
footprint RES SMD 1206
pins: 1, 2

## RES 1206 4R0 1%
designator C?, comment 4R0
4.02R 1% 250mW 1206 Thick Film Resistor; Manufacturer: FOJAN; Manufacturer Part Number: FRC1206F4R02TS; Voltage Rating: 200V; Supplier: LCSC; Supplier Part Number: C2999563; Resistance: 4R0; Tolerance: 1%; Power: 250mW
footprint RES SMD 1206
pins: 1, 2

## RES 1206 4R0 1%_1
designator C?, comment 4R0
4.02MR 1% 250mW 1206 Thick Film Resistor; Manufacturer: FOJAN; Manufacturer Part Number: FRC1206F4024TS; Voltage Rating: 200V; Supplier: LCSC; Supplier Part Number: C2999546; Resistance: 4R0; Tolerance: 1%; Power: 250mW
footprint RES SMD 1206
pins: 1, 2

## RES 1206 4R1 1%
designator C?, comment 4R1
4.12R 1% 250mW 1206 Thick Film Resistor; Manufacturer: FOJAN; Manufacturer Part Number: FRC1206F4R12TS; Voltage Rating: 200V; Supplier: LCSC; Supplier Part Number: C2933716; Resistance: 4R1; Tolerance: 1%; Power: 250mW
footprint RES SMD 1206
pins: 1, 2

## RES 1206 4R2 1%
designator C?, comment 4R2
4.22R 1% 250mW 1206 Thick Film Resistor; Manufacturer: FOJAN; Manufacturer Part Number: FRC1206F4R22TS; Voltage Rating: 200V; Supplier: LCSC; Supplier Part Number: C2999564; Resistance: 4R2; Tolerance: 1%; Power: 250mW
footprint RES SMD 1206
pins: 1, 2

## RES 1206 4R3 1%
designator C?, comment 4R3
4.3R 1% 250mW 1206 Thick Film Resistor; Manufacturer: FOJAN; Manufacturer Part Number: FRC1206F4R30TS; Voltage Rating: 200V; Supplier: LCSC; Supplier Part Number: C2933717; Resistance: 4R3; Tolerance: 1%; Power: 250mW
footprint RES SMD 1206
pins: 1, 2

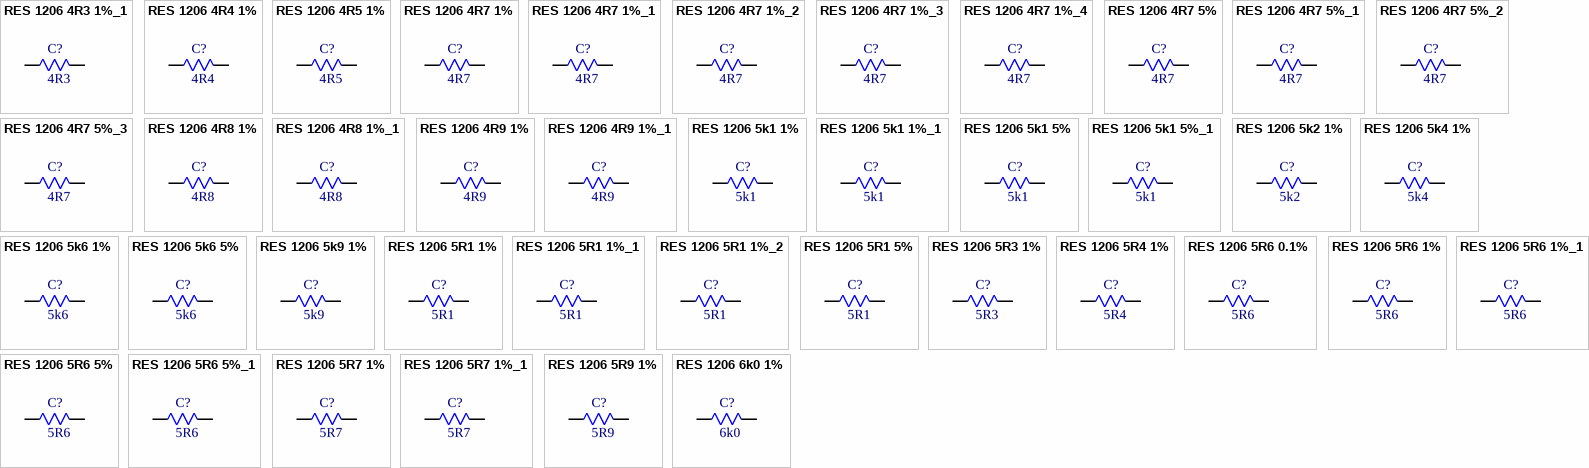
[diagram p63: symbols RES 1206 4R3 1%_1 to RES 1206 6k0 1%]

## RES 1206 4R3 1%_1
designator C?, comment 4R3
4.3MR 1% 250mW 1206 Thick Film Resistor; Manufacturer: FOJAN; Manufacturer Part Number: FRC1206F4304TS; Voltage Rating: 200V; Supplier: LCSC; Supplier Part Number: C3013256; Resistance: 4R3; Tolerance: 1%; Power: 250mW
footprint RES SMD 1206
pins: 1, 2

## RES 1206 4R4 1%
designator C?, comment 4R4
4.42R 1% 250mW 1206 Thick Film Resistor; Manufacturer: FOJAN; Manufacturer Part Number: FRC1206F4R42TS; Voltage Rating: 200V; Supplier: LCSC; Supplier Part Number: C2933718; Resistance: 4R4; Tolerance: 1%; Power: 250mW
footprint RES SMD 1206
pins: 1, 2

## RES 1206 4R5 1%
designator C?, comment 4R5
4.53R 1% 250mW 1206 Thick Film Resistor; Manufacturer: FOJAN; Manufacturer Part Number: FRC1206F4R53TS; Voltage Rating: 200V; Supplier: LCSC; Supplier Part Number: C5713325; Resistance: 4R5; Tolerance: 1%; Power: 250mW
footprint RES SMD 1206
pins: 1, 2

## RES 1206 4R7 1%
designator C?, comment 4R7
4.7R 1% 250mW 1206 Thick Film Resistor; Manufacturer: FOJAN; Manufacturer Part Number: FRC1206F4R70TS; Voltage Rating: 200V; Supplier: LCSC; Supplier Part Number: C2907388; Resistance: 4R7; Tolerance: 1%; Power: 250mW
footprint RES SMD 1206
pins: 1, 2

## RES 1206 4R7 1%_1
designator C?, comment 4R7
250mW 4.7R 200V Thick Film Resistor 200ppm/â„ƒ 1% 1206 Chip Resistor - Surface Mount RoHS; Manufacturer: FOJAN; Manufacturer Part Number: FRQ1206F4R70TS; Supplier: LCSC; Supplier Part Number: C49010128; Resistance: 4R7; Tolerance: 1%; Voltage Rating: 200V; Power: 250mW
footprint RES SMD 1206
pins: 1, 2

## RES 1206 4R7 1%_2
designator C?, comment 4R7
4.75R 1% 250mW 1206 Thick Film Resistor; Manufacturer: FOJAN; Manufacturer Part Number: FRC1206F4R75TS; Voltage Rating: 200V; Supplier: LCSC; Supplier Part Number: C2933719; Resistance: 4R7; Tolerance: 1%; Power: 250mW
footprint RES SMD 1206
pins: 1, 2

## RES 1206 4R7 1%_3
designator C?, comment 4R7
4.7MR 1% 250mW 1206 Thick Film Resistor; Manufacturer: FOJAN; Manufacturer Part Number: FRC1206F4704TS; Voltage Rating: 200V; Supplier: LCSC; Supplier Part Number: C2933710; Resistance: 4R7; Tolerance: 1%; Power: 250mW
footprint RES SMD 1206
pins: 1, 2

## RES 1206 4R7 1%_4
designator C?, comment 4R7
250mW 4.75MR 200V Thick Film Resistor 100ppm/â„ƒ 1% 1206 Chip Resistor - Surface Mount RoHS; Manufacturer: FOJAN; Manufacturer Part Number: FRC1206F4754TS; Supplier: LCSC; Supplier Part Number: C18164304; Resistance: 4R7; Tolerance: 1%; Voltage Rating: 200V; Power: 250mW
footprint RES SMD 1206
pins: 1, 2

## RES 1206 4R7 5%
designator C?, comment 4R7
4.7R 5% 250mW 1206 Thick Film Resistor; Manufacturer: FOJAN; Manufacturer Part Number: FRC1206J4R7 TS; Voltage Rating: 200V; Supplier: LCSC; Supplier Part Number: C2907501; Resistance: 4R7; Tolerance: 5%; Power: 250mW
footprint RES SMD 1206
pins: 1, 2

## RES 1206 4R7 5%_1
designator C?, comment 4R7
4.7MR 5% 250mW 1206 Thick Film Resistor; Manufacturer: FOJAN; Manufacturer Part Number: FRC1206J475 TS; Voltage Rating: 200V; Supplier: LCSC; Supplier Part Number: C2907500; Resistance: 4R7; Tolerance: 5%; Power: 250mW
footprint RES SMD 1206
pins: 1, 2

## RES 1206 4R7 5%_2
designator C?, comment 4R7
4.7R 500mW 200V Thick Film Resistor 5% 1206 Chip Resistor - Surface Mount RoHS; Manufacturer: FOJAN; Manufacturer Part Number: FPS1206J4R7 TS; Supplier: LCSC; Supplier Part Number: C51048267; Resistance: 4R7; Tolerance: 5%; Voltage Rating: 200V; Power: 500mW
footprint RES SMD 1206
pins: 1, 2

## RES 1206 4R7 5%_3
designator C?, comment 4R7
4.7MR 250mW Thick Film Resistor 100ppm/â„ƒ 5% 1206 Chip Resistor - Surface Mount RoHS; Manufacturer: FOJAN; Manufacturer Part Number: FRV1206J475 TS; Supplier: LCSC; Supplier Part Number: C42372228; Resistance: 4R7; Tolerance: 5%; Power: 250mW
footprint RES SMD 1206
pins: 1, 2

## RES 1206 4R8 1%
designator C?, comment 4R8
4.87R 1% 250mW 1206 Thick Film Resistor; Manufacturer: FOJAN; Manufacturer Part Number: FRC1206F4R87TS; Voltage Rating: 200V; Supplier: LCSC; Supplier Part Number: C5159735; Resistance: 4R8; Tolerance: 1%; Power: 250mW
footprint RES SMD 1206
pins: 1, 2

## RES 1206 4R8 1%_1
designator C?, comment 4R8
250mW 4.87MR 200V Thick Film Resistor 1% 1206 Chip Resistor - Surface Mount RoHS; Manufacturer: FOJAN; Manufacturer Part Number: FRC1206F4874TS; Supplier: LCSC; Supplier Part Number: C51048359; Resistance: 4R8; Tolerance: 1%; Voltage Rating: 200V; Power: 250mW
footprint RES SMD 1206
pins: 1, 2

## RES 1206 4R9 1%
designator C?, comment 4R9
4.99MR 1% 250mW 1206 Thick Film Resistor; Manufacturer: FOJAN; Manufacturer Part Number: FRC1206F4994TS; Voltage Rating: 200V; Supplier: LCSC; Supplier Part Number: C3000748; Resistance: 4R9; Tolerance: 1%; Power: 250mW
footprint RES SMD 1206
pins: 1, 2

## RES 1206 4R9 1%_1
designator C?, comment 4R9
4.99R 1% 250mW 1206 Thick Film Resistor; Manufacturer: FOJAN; Manufacturer Part Number: FRC1206F4R99TS; Voltage Rating: 200V; Supplier: LCSC; Supplier Part Number: C2999547; Resistance: 4R9; Tolerance: 1%; Power: 250mW
footprint RES SMD 1206
pins: 1, 2

## RES 1206 5k1 1%
designator C?, comment 5k1
5.1kR 1% 250mW 1206 Thick Film Resistor; Manufacturer: FOJAN; Manufacturer Part Number: FRC1206F5101TS; Voltage Rating: 200V; Supplier: LCSC; Supplier Part Number: C2933721; Resistance: 5k1; Tolerance: 1%; Power: 250mW
footprint RES SMD 1206
pins: 1, 2

## RES 1206 5k1 1%_1
designator C?, comment 5k1
250mW 5.1kR 200V Thick Film Resistor 100ppm/â„ƒ 1% 1206 Chip Resistor - Surface Mount RoHS; Manufacturer: FOJAN; Manufacturer Part Number: FRQ1206F5101TS; Supplier: LCSC; Supplier Part Number: C48533722; Resistance: 5k1; Tolerance: 1%; Voltage Rating: 200V; Power: 250mW
footprint RES SMD 1206
pins: 1, 2

## RES 1206 5k1 5%
designator C?, comment 5k1
5.1kR 5% 250mW 1206 Thick Film Resistor; Manufacturer: FOJAN; Manufacturer Part Number: FRC1206J512 TS; Voltage Rating: 200V; Supplier: LCSC; Supplier Part Number: C2907509; Resistance: 5k1; Tolerance: 5%; Power: 250mW
footprint RES SMD 1206
pins: 1, 2

## RES 1206 5k1 5%_1
designator C?, comment 5k1
250mW 5.1kR Thick Film Resistor 100ppm/â„ƒ 5% 1206 Chip Resistor - Surface Mount RoHS; Manufacturer: FOJAN; Manufacturer Part Number: FRQ1206J512 TS; Supplier: LCSC; Supplier Part Number: C22375089; Resistance: 5k1; Tolerance: 5%; Power: 250mW
footprint RES SMD 1206
pins: 1, 2

## RES 1206 5k2 1%
designator C?, comment 5k2
250mW 5.23kR 200V Thick Film Resistor 100ppm/â„ƒ 1% 1206 Chip Resistor - Surface Mount RoHS; Manufacturer: FOJAN; Manufacturer Part Number: FRC1206F5231TS; Supplier: LCSC; Supplier Part Number: C49010147; Resistance: 5k2; Tolerance: 1%; Voltage Rating: 200V; Power: 250mW
footprint RES SMD 1206
pins: 1, 2

## RES 1206 5k4 1%
designator C?, comment 5k4
5.49kR 250mW 200V Thick Film Resistor 100ppm/â„ƒ 1% 1206 Chip Resistor - Surface Mount RoHS; Manufacturer: FOJAN; Manufacturer Part Number: FRC1206F5491TS; Supplier: LCSC; Supplier Part Number: C18164299; Resistance: 5k4; Tolerance: 1%; Voltage Rating: 200V; Power: 250mW
footprint RES SMD 1206
pins: 1, 2

## RES 1206 5k6 1%
designator C?, comment 5k6
5.6kR 1% 250mW 1206 Thick Film Resistor; Manufacturer: FOJAN; Manufacturer Part Number: FRC1206F5601TS; Voltage Rating: 200V; Supplier: LCSC; Supplier Part Number: C2933730; Resistance: 5k6; Tolerance: 1%; Power: 250mW
footprint RES SMD 1206
pins: 1, 2

## RES 1206 5k6 5%
designator C?, comment 5k6
5.6kR 5% 250mW 1206 Thick Film Resistor AEC-Q200; Manufacturer: FOJAN; Manufacturer Part Number: FRQ1206J562 TS; Voltage Rating: 200V; Supplier: LCSC; Supplier Part Number: C5713472; Resistance: 5k6; Tolerance: 5%; Power: 250mW
footprint RES SMD 1206
pins: 1, 2

## RES 1206 5k9 1%
designator C?, comment 5k9
5.9kR 1% 250mW 1206 Thick Film Resistor; Manufacturer: FOJAN; Manufacturer Part Number: FRC1206F5901TS; Voltage Rating: 200V; Supplier: LCSC; Supplier Part Number: C2933734; Resistance: 5k9; Tolerance: 1%; Power: 250mW
footprint RES SMD 1206
pins: 1, 2

## RES 1206 5R1 1%
designator C?, comment 5R1
5.1R 1% 250mW 1206 Thick Film Resistor; Manufacturer: FOJAN; Manufacturer Part Number: FRC1206F5R10TS; Voltage Rating: 200V; Supplier: LCSC; Supplier Part Number: C2933736; Resistance: 5R1; Tolerance: 1%; Power: 250mW
footprint RES SMD 1206
pins: 1, 2

## RES 1206 5R1 1%_1
designator C?, comment 5R1
5.11R 1% 250mW 1206 Thick Film Resistor; Manufacturer: FOJAN; Manufacturer Part Number: FRC1206F5R11TS; Voltage Rating: 200V; Supplier: LCSC; Supplier Part Number: C2999489; Resistance: 5R1; Tolerance: 1%; Power: 250mW
footprint RES SMD 1206
pins: 1, 2

## RES 1206 5R1 1%_2
designator C?, comment 5R1
5.1MR 1% 250mW 1206 Thick Film Resistor; Manufacturer: FOJAN; Manufacturer Part Number: FRC1206F5104TS; Voltage Rating: 200V; Supplier: LCSC; Supplier Part Number: C2933723; Resistance: 5R1; Tolerance: 1%; Power: 250mW
footprint RES SMD 1206
pins: 1, 2

## RES 1206 5R1 5%
designator C?, comment 5R1
5.1MR 5% 250mW 1206 Thick Film Resistor; Manufacturer: FOJAN; Manufacturer Part Number: FRC1206J515 TS; Voltage Rating: 200V; Supplier: LCSC; Supplier Part Number: C2907510; Resistance: 5R1; Tolerance: 5%; Power: 250mW
footprint RES SMD 1206
pins: 1, 2

## RES 1206 5R3 1%
designator C?, comment 5R3
5.36R 1% 250mW 1206 Thick Film Resistor; Manufacturer: FOJAN; Manufacturer Part Number: FRC1206F5R36TS; Voltage Rating: 200V; Supplier: LCSC; Supplier Part Number: C2960709; Resistance: 5R3; Tolerance: 1%; Power: 250mW
footprint RES SMD 1206
pins: 1, 2

## RES 1206 5R4 1%
designator C?, comment 5R4
5.49R 1% 250mW 1206 Thick Film Resistor; Manufacturer: FOJAN; Manufacturer Part Number: FRC1206F5R49TS; Voltage Rating: 200V; Supplier: LCSC; Supplier Part Number: C5713327; Resistance: 5R4; Tolerance: 1%; Power: 250mW
footprint RES SMD 1206
pins: 1, 2

## RES 1206 5R6 0.1%
designator C?, comment 5R6
250mW 5.6R 200V Thick Film Resistor 0.1% 1206 Chip Resistor - Surface Mount RoHS; Manufacturer: FOJAN; Manufacturer Part Number: FRT1206B5R60TSX; Supplier: LCSC; Supplier Part Number: C52033519; Resistance: 5R6; Tolerance: 0.1%; Voltage Rating: 200V; Power: 250mW
footprint RES SMD 1206
pins: 1, 2

## RES 1206 5R6 1%
designator C?, comment 5R6
5.6MR 1% 250mW 1206 Thick Film Resistor; Manufacturer: FOJAN; Manufacturer Part Number: FRC1206F5604TS; Voltage Rating: 200V; Supplier: LCSC; Supplier Part Number: C5713326; Resistance: 5R6; Tolerance: 1%; Power: 250mW
footprint RES SMD 1206
pins: 1, 2

## RES 1206 5R6 1%_1
designator C?, comment 5R6
5.6R 1% 250mW 1206 Thick Film Resistor; Manufacturer: FOJAN; Manufacturer Part Number: FRC1206F5R60TS; Voltage Rating: 200V; Supplier: LCSC; Supplier Part Number: C2907390; Resistance: 5R6; Tolerance: 1%; Power: 250mW
footprint RES SMD 1206
pins: 1, 2

## RES 1206 5R6 5%
designator C?, comment 5R6
5.6R 5% 250mW 1206 Thick Film Resistor; Manufacturer: FOJAN; Manufacturer Part Number: FRC1206J5R6 TS; Voltage Rating: 200V; Supplier: LCSC; Supplier Part Number: C2907513; Resistance: 5R6; Tolerance: 5%; Power: 250mW
footprint RES SMD 1206
pins: 1, 2

## RES 1206 5R6 5%_1
designator C?, comment 5R6
5.6MR 5% 250mW 1206 Thick Film Resistor; Manufacturer: FOJAN; Manufacturer Part Number: FRC1206J565 TS; Voltage Rating: 200V; Supplier: LCSC; Supplier Part Number: C2933789; Resistance: 5R6; Tolerance: 5%; Power: 250mW
footprint RES SMD 1206
pins: 1, 2

## RES 1206 5R7 1%
designator C?, comment 5R7
5.76R 1% 250mW 1206 Thick Film Resistor; Manufacturer: FOJAN; Manufacturer Part Number: FRC1206F5R76TS; Voltage Rating: 200V; Supplier: LCSC; Supplier Part Number: C5153990; Resistance: 5R7; Tolerance: 1%; Power: 250mW
footprint RES SMD 1206
pins: 1, 2

## RES 1206 5R7 1%_1
designator C?, comment 5R7
250mW 5.76MR 200V Thick Film Resistor 1% 1206 Chip Resistor - Surface Mount RoHS; Manufacturer: FOJAN; Manufacturer Part Number: FRC1206F5764TS; Supplier: LCSC; Supplier Part Number: C52033523; Resistance: 5R7; Tolerance: 1%; Voltage Rating: 200V; Power: 250mW
footprint RES SMD 1206
pins: 1, 2